# EAGLE library part DRV8833 (library texas1)
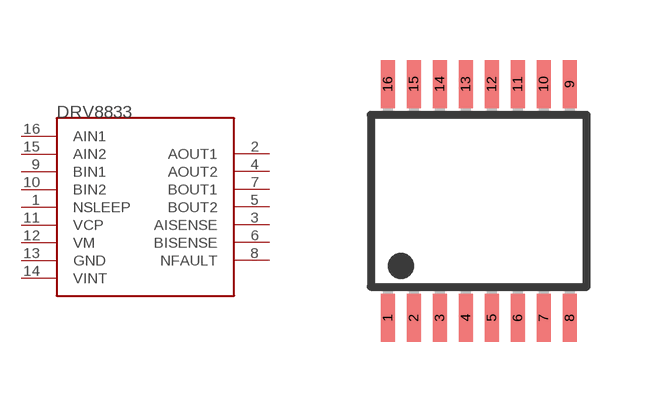
[diagram p126: symbol with the pads of TSSOP16; footprint TSSOP16]

Designator prefix -

## DRV8833  [TSSOP16]
1  NSLEEP  in
2  AOUT1  out
3  AISENSE  out
4  AOUT2  out
5  BOUT2  out
6  BISENSE  out
7  BOUT1  out
8  NFAULT  out
9  BIN1  in
10  BIN2  in
11  VCP  pwr
12  VM  pwr
13  GND  pwr
14  VINT  pwr
15  AIN2  in
16  AIN1  in

## Footprint TSSOP16 (pad centres in mm)
PW (R-PDSO-G8) Source: http://focus.ti.com/lit/ds/symlink/ads1271.pdf
smd 0.35 x 1.2: 1 -2.275,-2.925; 2 -1.625,-2.925; 3 -0.975,-2.925; 4 -0.325,-2.925; 5 0.325,-2.925; 6 0.975,-2.925; 7 1.625,-2.925; 8 2.275,-2.925; 9 2.275,2.925; 10 1.625,2.925; 11 0.975,2.925; 12 0.325,2.925; 13 -0.325,2.925; 14 -0.975,2.925; 15 -1.625,2.925; 16 -2.275,2.925